# EAGLE library part MCP4921-X/P (library 3cent_parts)
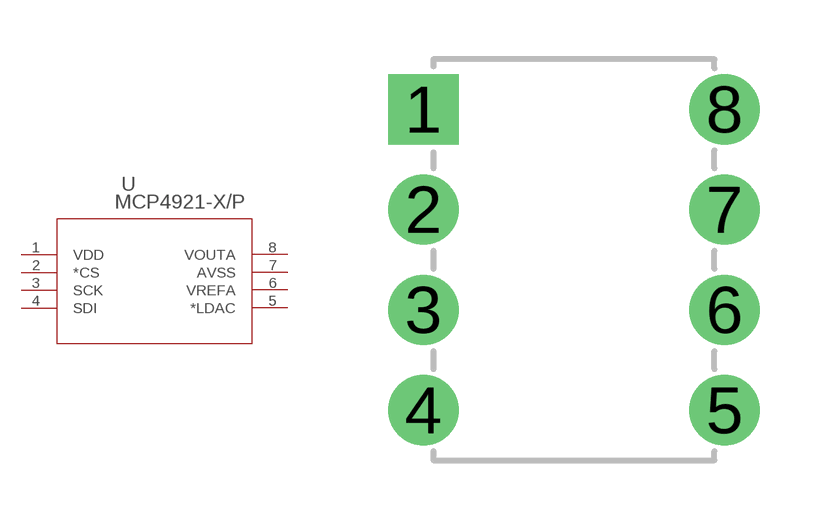
[diagram p4: symbol with the pads of PDIP8_300MC; footprint PDIP8_300MC]

Designator prefix -

## MCP4921-X/P  [PDIP8_300MC]
1  VDD  pas
2  *CS  pas
3  SCK  pas
4  SDI  pas
5  *LDAC  pas
6  VREFA  pas
7  AVSS  pas
8  VOUTA  pas

## Footprint PDIP8_300MC (pad centres in mm)
drill 0.991 pad 1.778 square: 1 -7.62,7.62
drill 0.991 pad 1.778: 2 -7.62,5.08; 3 -7.62,2.54; 4 -7.62,0; 5 0,0; 6 0,2.54; 7 0,5.08; 8 0,7.62